# Altium footprint library 1827059_3.PcbLib: 1 footprints
Each footprint in its own frame and in the unit in brackets; x right, y up, seen from the top. Pads: shape width x height; smd on the part's side, far side on the other; paste and mask are expansions set on the pad; w line width, h text height; cw(c..) or ccw(c..) is an arc to the next point about the centre after c.
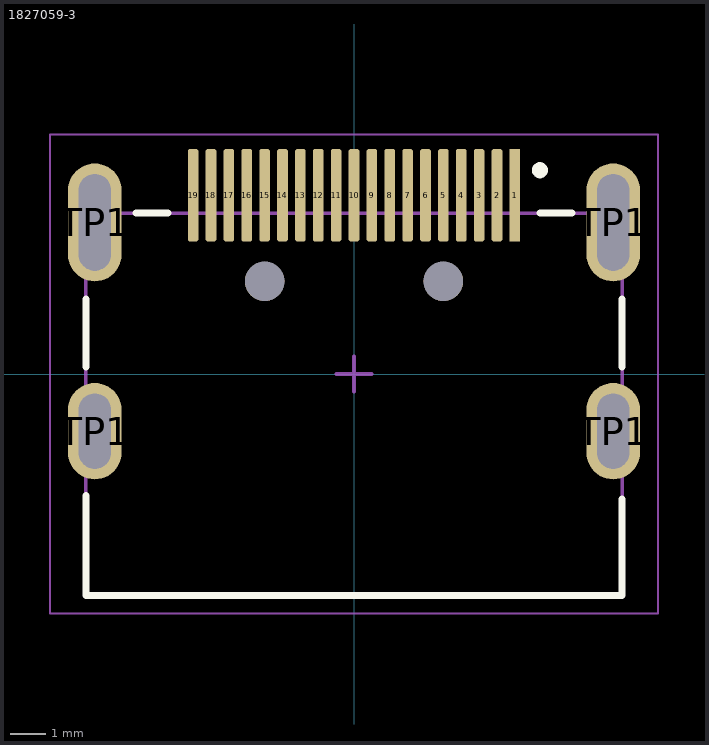
[diagram p0: the footprint, top view; thin cyan lines are the x and y axes]

## 1827059-3 [mm]
height 4.6
pads (25):
  rect 0.3x2.6 smd: 1(4.5,5)
  rrect50% 0.3x2.6 smd: 2(4,5) 3(3.5,5) 4(3,5) 5(2.5,5) 6(2,5) 7(1.5,5) 8(1,5) 9(0.5,5) 10(0,5) 11(-0.5,5) 12(-1,5) 13(-1.5,5) 14(-2,5) 15(-2.5,5) 16(-3,5) 17(-3.5,5) 18(-4,5) 19(-4.5,5)
  oval 1.5x2.7 hole 0.9 slot 2.1 at 90 deg: TP1(-7.25,-1.6) TP1(7.25,-1.6)
  oval 1.5x3.3 hole 0.9 slot 2.7 at 90 deg: TP1(-7.25,4.24) TP1(7.25,4.24)
  round 1.1 hole 1.1 unplated: ""(-2.5,2.59) ""(2.5,2.59)
Top Overlay:
  circle w0.25: c5.2,5.7 r0.1
  lines w0.2: -7.5,-3.4 -7.5,-6.2 7.5,-6.2 7.5,-3.5 ; -7.5,0.2 -7.5,2.1 ; -6.1,4.5 -5.2,4.5 ; 5.2,4.5 6.1,4.5 ; 7.5,0.2 7.5,2.1
Top Comment:
  text ".Comment" at 0.9,6.9 h1.2
Top Designator:
  text ".Designator" at -0.4,6.9 h1.2
Top Component Outline:
  lines w0.1: -7.5,-6.2 -7.5,4.5 7.5,4.5 7.5,-6.2 -7.5,-6.2
Top Courtyard (Mech15):
  lines w0.05: -8.5,-6.7 -8.5,6.7 8.5,6.7 8.5,-6.7 -8.5,-6.7
  lines w0.1: -0.5,0 0.5,0 ; 0,-0.5 0,0.5
3D body "1827059-3.STEP": height 6.08, standoff -2.2, extent -7.5,-6.2 7.5,5.9